# Altium schematic symbol library SamacSys.SchLib: 4 symbols
Pins are listed as number, name and electrical type; pins without a type are passive.

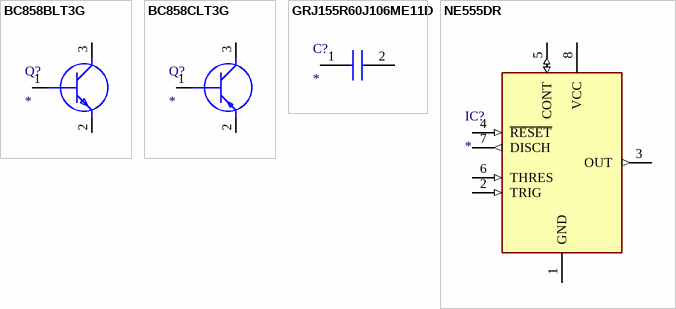
[diagram p0: symbols BC858BLT3G to NE555DR]

## BC858BLT3G
designator Q?
Transistor BJT PNP; Manufacturer_Name: ON Semiconductor; Manufacturer_Part_Number: BC858BLT3G; Datasheet Link: https://www.onsemi.com/pub/Collateral/BC856ALT1-D.PDF; Height: 1.11mm
footprint SOT96P237X111-3N
pins: 1 B, 2 E, 3 C

## BC858CLT3G
designator Q?
Transistor BJT PNP; Manufacturer_Name: ON Semiconductor; Manufacturer_Part_Number: BC858CLT3G; Datasheet Link: https://componentsearchengine.com//BC858CLT3G.pdf; Mouser2 Part Number: 863-BC858CLT3G; Mouser2 Price/Stock: https://www.mouser.com/Search/Refine.aspx?Keyword=863-BC858CLT3G
footprint BC858CLT3G
pins: 1 B, 2 E, 3 C

## GRJ155R60J106ME11D
designator C?
Capacitor; Manufacturer_Name: Murata Electronics; Manufacturer_Part_Number: GRJ155R60J106ME11D; Datasheet Link: https://componentsearchengine.com//GRJ155R60J106ME11D.pdf; Height: 0.7mm; Mouser2 Part Number: 81-GRJ155R60J106ME1D; Mouser2 Price/Stock: https://www.mouser.com/Search/Refine.aspx?Keyword=81-GRJ155R60J106ME1D
footprint CAPC1005X70N
pins: 1, 2

## NE555DR
designator IC?
Integrated Circuit; Manufacturer_Name: Texas Instruments; Manufacturer_Part_Number: NE555DR; Datasheet Link: http://www.ti.com/lit/ds/symlink/ne555.pdf; Height: 1.75mm; Mouser Part Number: 595-NE555DR; Mouser Price/Stock: https://www.mouser.com/Search/Refine.aspx?Keyword=595-NE555DR; RS Part Number: 1218414; RS Price/Stock: http://uk.rs-online.com/web/p/products/1218414
footprint SOIC127P600X175-8N
pins: 1 GND (power), 2 TRIG (in), 3 OUT (out), 4 ~{RESET} (in), 5 CONT (io), 6 THRES (in), 7 DISCH (out), 8 VCC (power)